# EAGLE library part ADC-10-4 (library MiniCircuitsSCantu)
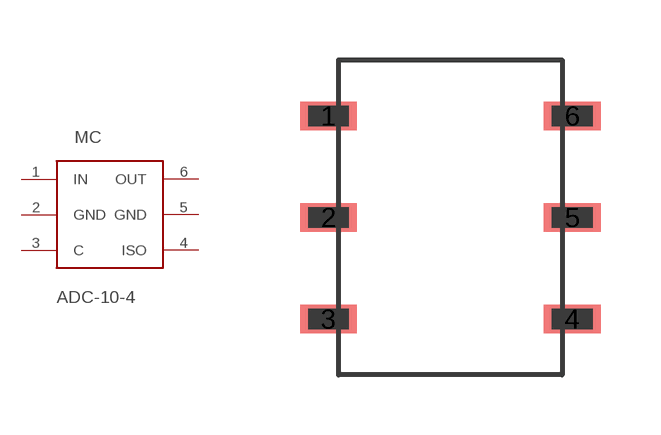
[diagram p1: symbol with the pads of CD542; footprint CD542]

Designator prefix MC

## ADC-10-4  [CD542]
1  IN
2  GND
3  C
4  ISO
5  GND
6  OUT

## Footprint CD542 (pad centres in mm)
smd 1.422 x 0.711: 1 -3.048,2.54; 2 -3.048,0; 3 -3.048,-2.54; 4 3.048,-2.54; 5 3.048,0; 6 3.048,2.54